# EAGLE library part IN-14 (library nixie)
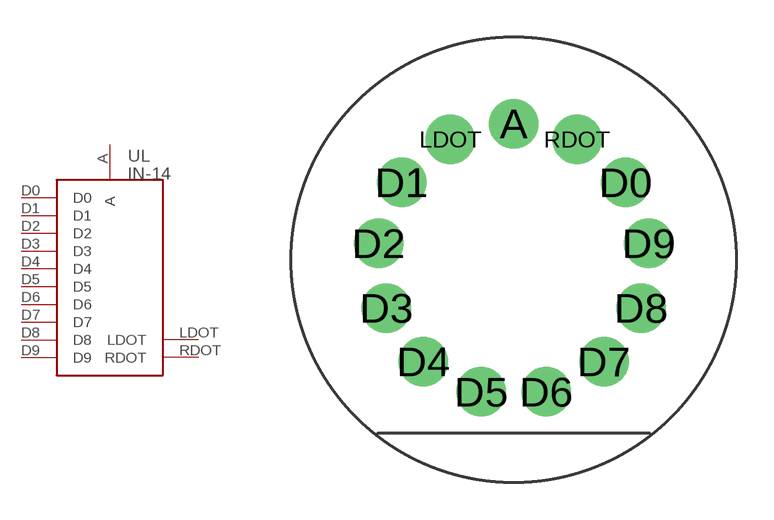
[diagram p2: symbol with the pads of IN-14; footprint IN-14]

Designator prefix UL

## IN-14  [IN-14]
A  A
D0  D0
D1  D1
D2  D2
D3  D3
D4  D4
D5  D5
D6  D6
D7  D7
D8  D8
D9  D9
LDOT  LDOT
RDOT  RDOT

## Footprint IN-14 (pad centres in mm)
drill 0.6 pad 2: A 0,5.5; D0 4.526,3.124; D1 -4.526,3.124; D2 -5.46,0.663; D3 -5.143,-1.95; D4 -3.647,-4.117; D5 -1.316,-5.34; D6 1.316,-5.34; D7 3.647,-4.117; D8 5.143,-1.95; D9 5.46,0.663; LDOT -2.556,4.87; RDOT 2.556,4.87